# EAGLE library part AT32UC3C0 (library atmega-atxmega)
ATMEL 32-bit Microcontroller 64KB, 128KB, 256KB, 512KB 144-pin LQFP (123 GPIO pins) http://www.atmel.com/Images/32117s.pdf
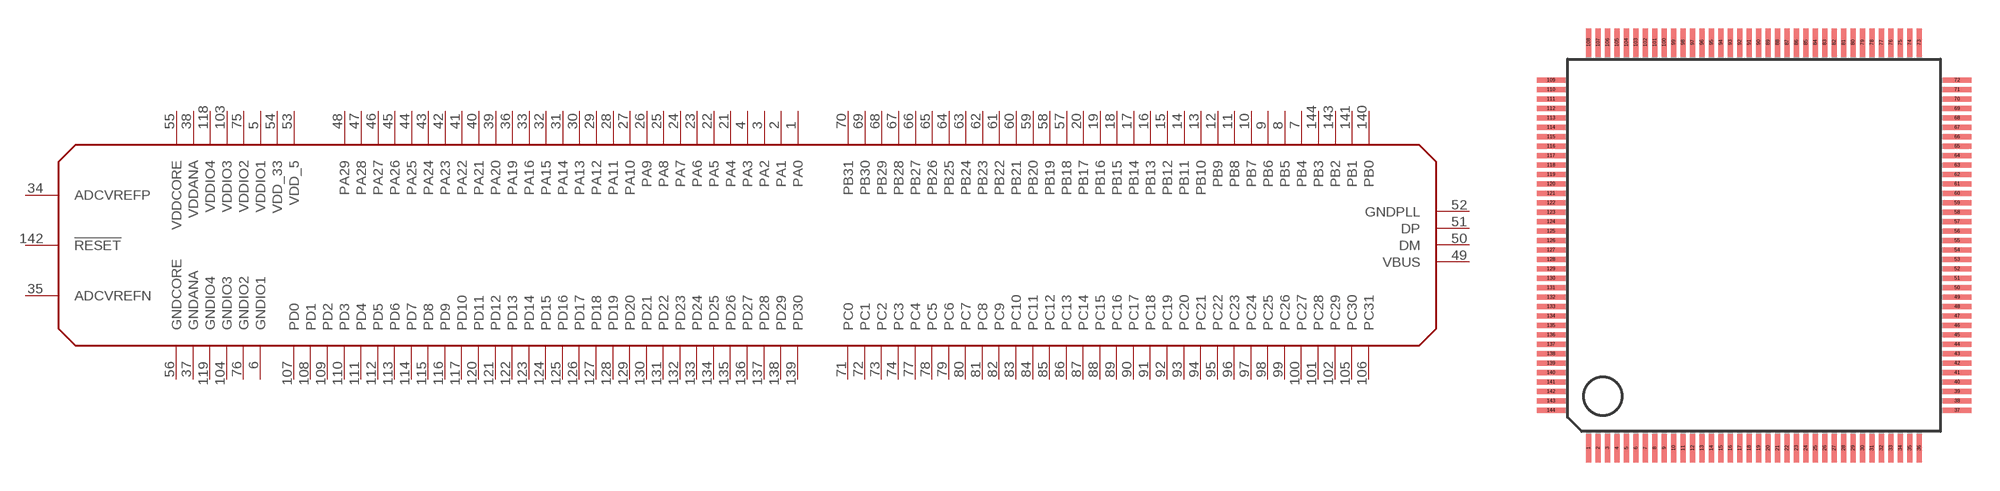
[diagram p96: symbol with the pads of TQFP144; footprint TQFP144]

Designator prefix -

## AT32UC3C0, AT32UC3C0064 (FLASH: 64KB), AT32UC3C0128 (FLASH: 128KB), AT32UC3C0256 (FLASH: 256KB), AT32UC3C0512 (FLASH: 512KB)  [TQFP144]
1  PA0
2  PA1
3  PA2
4  PA3
5  VDDIO1
6  GNDIO1
7  PB4
8  PB5
9  PB6
10  PB7
11  PB8
12  PB9
13  PB10
14  PB11
15  PB12
16  PB13
17  PB14
18  PB15
19  PB16
20  PB17
21  PA4
22  PA5
23  PA6
24  PA7
25  PA8
26  PA9
27  PA10
28  PA11
29  PA12
30  PA13
31  PA14
32  PA15
33  PA16
34  ADCVREFP
35  ADCVREFN
36  PA19
37  GNDANA
38  VDDANA
39  PA20
40  PA21
41  PA22
42  PA23
43  PA24
44  PA25
45  PA26
46  PA27
47  PA28
48  PA29
49  VBUS
50  DM
51  DP
52  GNDPLL
53  VDD_5
54  VDD_33
55  VDDCORE
56  GNDCORE
57  PB18
58  PB19
59  PB20
60  PB21
61  PB22
62  PB23
63  PB24
64  PB25
65  PB26
66  PB27
67  PB28
68  PB29
69  PB30
70  PB31
71  PC0
72  PC1
73  PC2
74  PC3
75  VDDIO2
76  GNDIO2
77  PC4
78  PC5
79  PC6
80  PC7
81  PC8
82  PC9
83  PC10
84  PC11
85  PC12
86  PC13
87  PC14
88  PC15
89  PC16
90  PC17
91  PC18
92  PC19
93  PC20
94  PC21
95  PC22
96  PC23
97  PC24
98  PC25
99  PC26
100  PC27
101  PC28
102  PC29
103  VDDIO3
104  GNDIO3
105  PC30
106  PC31
107  PD0
108  PD1
109  PD2
110  PD3
111  PD4
112  PD5
113  PD6
114  PD7
115  PD8
116  PD9
117  PD10
118  VDDIO4
119  GNDIO4
120  PD11
121  PD12
122  PD13
123  PD14
124  PD15
125  PD16
126  PD17
127  PD18
128  PD19
129  PD20
130  PD21
131  PD22
132  PD23
133  PD24
134  PD25
135  PD26
136  PD27
137  PD28
138  PD29
139  PD30
140  PB0
141  PB1
142  !RESET
143  PB2
144  PB3

## Footprint TQFP144 (pad centres in mm)
Thin Quad Flat Pack
smd 0.27 x 1.5: 1 -8.75,-10.75; 2 -8.25,-10.75; 3 -7.75,-10.75; 4 -7.25,-10.75; 5 -6.75,-10.75; 6 -6.25,-10.75; 7 -5.75,-10.75; 8 -5.25,-10.75; 9 -4.75,-10.75; 10 -4.25,-10.75; 11 -3.75,-10.75; 12 -3.25,-10.75; 13 -2.75,-10.75; 14 -2.25,-10.75; 15 -1.75,-10.75; 16 -1.25,-10.75; 17 -0.75,-10.75; 18 -0.25,-10.75; 19 0.25,-10.75; 20 0.75,-10.75; 21 1.25,-10.75; 22 1.75,-10.75; 23 2.25,-10.75; 24 2.75,-10.75; 25 3.25,-10.75; 26 3.75,-10.75; 27 4.25,-10.75; 28 4.75,-10.75; 29 5.25,-10.75; 30 5.75,-10.75; 31 6.25,-10.75; 32 6.75,-10.75; 33 7.25,-10.75; 34 7.75,-10.75; 35 8.25,-10.75; 36 8.75,-10.75; 73 8.75,10.75; 74 8.25,10.75; 75 7.75,10.75; 76 7.25,10.75; 77 6.75,10.75; 78 6.25,10.75; 79 5.75,10.75; 80 5.25,10.75; 81 4.75,10.75; 82 4.25,10.75; 83 3.75,10.75; 84 3.25,10.75; 85 2.75,10.75; 86 2.25,10.75; 87 1.75,10.75; 88 1.25,10.75; 89 0.75,10.75; 90 0.25,10.75; 91 -0.25,10.75; 92 -0.75,10.75; 93 -1.25,10.75; 94 -1.75,10.75; 95 -2.25,10.75; 96 -2.75,10.75; 97 -3.25,10.75; 98 -3.75,10.75; 99 -4.25,10.75; 100 -4.75,10.75; 101 -5.25,10.75; 102 -5.75,10.75; 103 -6.25,10.75; 104 -6.75,10.75; 105 -7.25,10.75; 106 -7.75,10.75; 107 -8.25,10.75; 108 -8.75,10.75
smd 1.5 x 0.27: 37 10.75,-8.75; 38 10.75,-8.25; 39 10.75,-7.75; 40 10.75,-7.25; 41 10.75,-6.75; 42 10.75,-6.25; 43 10.75,-5.75; 44 10.75,-5.25; 45 10.75,-4.75; 46 10.75,-4.25; 47 10.75,-3.75; 48 10.75,-3.25; 49 10.75,-2.75; 50 10.75,-2.25; 51 10.75,-1.75; 52 10.75,-1.25; 53 10.75,-0.75; 54 10.75,-0.25; 55 10.75,0.25; 56 10.75,0.75; 57 10.75,1.25; 58 10.75,1.75; 59 10.75,2.25; 60 10.75,2.75; 61 10.75,3.25; 62 10.75,3.75; 63 10.75,4.25; 64 10.75,4.75; 65 10.75,5.25; 66 10.75,5.75; 67 10.75,6.25; 68 10.75,6.75; 69 10.75,7.25; 70 10.75,7.75; 71 10.75,8.25; 72 10.75,8.75; 109 -10.75,8.75; 110 -10.75,8.25; 111 -10.75,7.75; 112 -10.75,7.25; 113 -10.75,6.75; 114 -10.75,6.25; 115 -10.75,5.75; 116 -10.75,5.25; 117 -10.75,4.75; 118 -10.75,4.25; 119 -10.75,3.75; 120 -10.75,3.25; 121 -10.75,2.75; 122 -10.75,2.25; 123 -10.75,1.75; 124 -10.75,1.25; 125 -10.75,0.75; 126 -10.75,0.25; 127 -10.75,-0.25; 128 -10.75,-0.75; 129 -10.75,-1.25; 130 -10.75,-1.75; 131 -10.75,-2.25; 132 -10.75,-2.75; 133 -10.75,-3.25; 134 -10.75,-3.75; 135 -10.75,-4.25; 136 -10.75,-4.75; 137 -10.75,-5.25; 138 -10.75,-5.75; 139 -10.75,-6.25; 140 -10.75,-6.75; 141 -10.75,-7.25; 142 -10.75,-7.75; 143 -10.75,-8.25; 144 -10.75,-8.75